# EAGLE library part SMD-BLACK-MALE-HEADER-VERT(12P-2.54) (library Seeed-OPL-Connector)
320020131
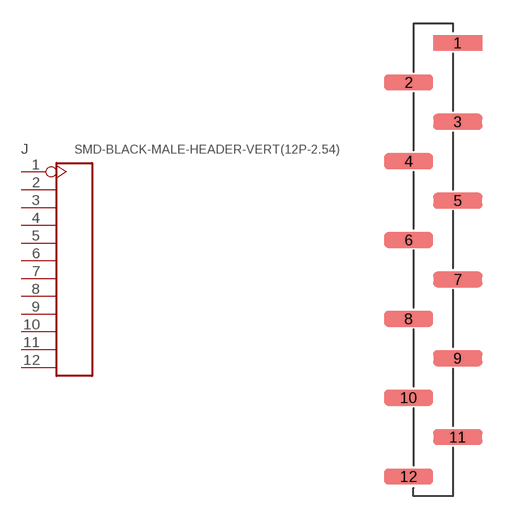
[diagram p106: symbol with the pads of H12-SMD-2.54; footprint H12-SMD-2.54]

Designator prefix J

## SMD-BLACK-MALE-HEADER-VERT(12P-2.54) (MPN: P125-1112A0BMB116D2; VALUE: 12p-smd-2.54)  [H12-SMD-2.54]
1  1
2  2
3  3
4  4
5  5
6  6
7  7
8  8
9  9
10  10
11  11
12  12

## Footprint H12-SMD-2.54 (pad centres in mm)
smd 3.17 x 1.02: 1 1.585,13.97; 2 -1.585,11.43; 3 1.585,8.89; 4 -1.585,6.35; 5 1.585,3.81; 6 -1.585,1.27; 7 1.585,-1.27; 8 -1.585,-3.81; 9 1.585,-6.35; 10 -1.585,-8.89; 11 1.585,-11.43; 12 -1.585,-13.97